# Altium schematic symbol library USBCConnector.SchLib: 1 symbol
Pins are listed as number, name and electrical type; pins without a type are passive.

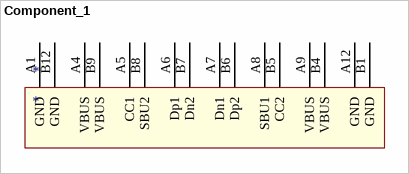
[diagram p0: symbol Component_1]

## Component_1
designator *
pins: A1 GND (power), A4 VBUS (power), A5 CC1 (power), A6 Dp1 (power), A7 Dn1 (power), A8 SBU1 (power), A9 VBUS (power), A12 GND (power), B1 GND (power), B4 VBUS (power), B5 CC2 (power), B6 Dp2 (power), B7 Dn2 (power), B8 SBU2 (power), B9 VBUS (power), B12 GND (power)